# Altium integrated library Capacitors$.IntLib: 601 symbols (part 2 of 4)
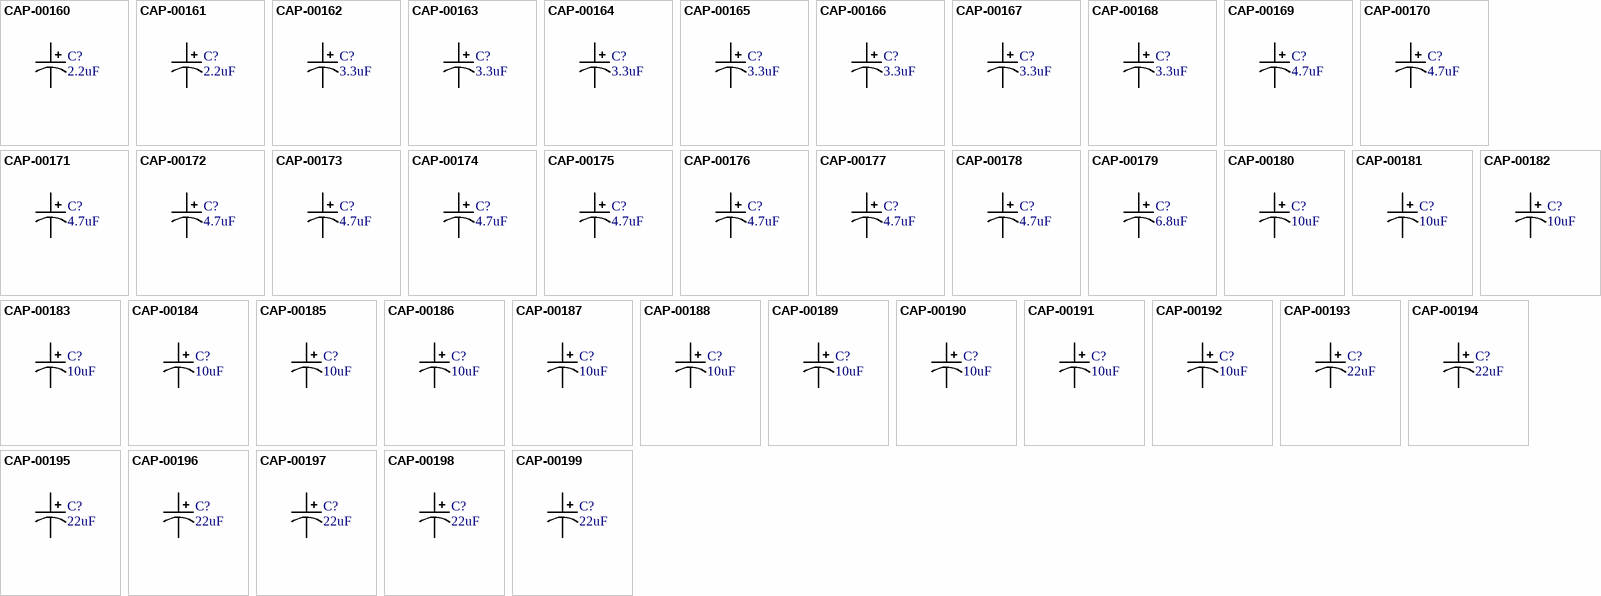
[diagram p16: symbols CAP-00160 to CAP-00199]

## CAP-00191
designator C?, comment 10uF
CAP, 10uF, 20%, 350V, Al, Radial/Can; Part Number: CAP-00191; Manufacturer: Nichicon; Manufacturer PN: UVR2V100MPD; Capacitance: 10uF; Tolerance: 20%; Voltage Rating: 350V; Type: Al
footprint can_5_0
pins: 1, 2

## CAP-00192
designator C?, comment 10uF
CAP, 10uF, 20%, 315V, Al, Radial/Can; Part Number: CAP-00192; Manufacturer: Nichicon; Manufacturer PN: UVR2F100MPD; Capacitance: 10uF; Tolerance: 20%; Voltage Rating: 315V; Type: Al
footprint can_5_0
pins: 1, 2

## CAP-00193
designator C?, comment 22uF
CAP, 22uF, 20%, 50V, Al, Radial/Can; Part Number: CAP-00193; Manufacturer: Nichicon; Manufacturer PN: UVR1H220MDD; Capacitance: 22uF; Tolerance: 20%; Voltage Rating: 50V; Type: Al
footprint can_2_0
pins: 1, 2

## CAP-00194
designator C?, comment 22uF
CAP, 22uF, 20%, 25V, Al, Radial/Can; Part Number: CAP-00194; Manufacturer: Nichicon; Manufacturer PN: UVR1E220MDD; Capacitance: 22uF; Tolerance: 20%; Voltage Rating: 25V; Type: Al
footprint can_2_0
pins: 1, 2

## CAP-00195
designator C?, comment 22uF
CAP, 22uF, 20%, 100V, Al, Radial/Can; Part Number: CAP-00195; Manufacturer: Nichicon; Manufacturer PN: UVR2A220MED; Capacitance: 22uF; Tolerance: 20%; Voltage Rating: 100V; Type: Al
footprint can_2.5_0
pins: 1, 2

## CAP-00196
designator C?, comment 22uF
CAP, 22uF, 20%, 160V, Al, Radial/Can; Part Number: CAP-00196; Manufacturer: Nichicon; Manufacturer PN: UVR2C220MPD; Capacitance: 22uF; Tolerance: 20%; Voltage Rating: 160V; Type: Al
footprint can_5_0
pins: 1, 2

## CAP-00197
designator C?, comment 22uF
CAP, 22uF, 20%, 450V, Al, Radial/Can; Part Number: CAP-00197; Manufacturer: Nichicon; Manufacturer PN: UVR2W220MHD; Capacitance: 22uF; Tolerance: 20%; Voltage Rating: 450V; Type: Al
footprint can_7.5_0
pins: 1, 2

## CAP-00198
designator C?, comment 22uF
CAP, 22uF, 20%, 35V, Al, Radial/Can; Part Number: CAP-00198; Manufacturer: Nichicon; Manufacturer PN: UVR1V220MDD; Capacitance: 22uF; Tolerance: 20%; Voltage Rating: 35V; Type: Al
footprint can_2_0
pins: 1, 2

## CAP-00199
designator C?, comment 22uF
CAP, 22uF, 20%, 63V, Al, Radial/Can; Part Number: CAP-00199; Manufacturer: Nichicon; Manufacturer PN: UVR1J220MDD; Capacitance: 22uF; Tolerance: 20%; Voltage Rating: 63V; Type: Al
footprint can_2_0
pins: 1, 2

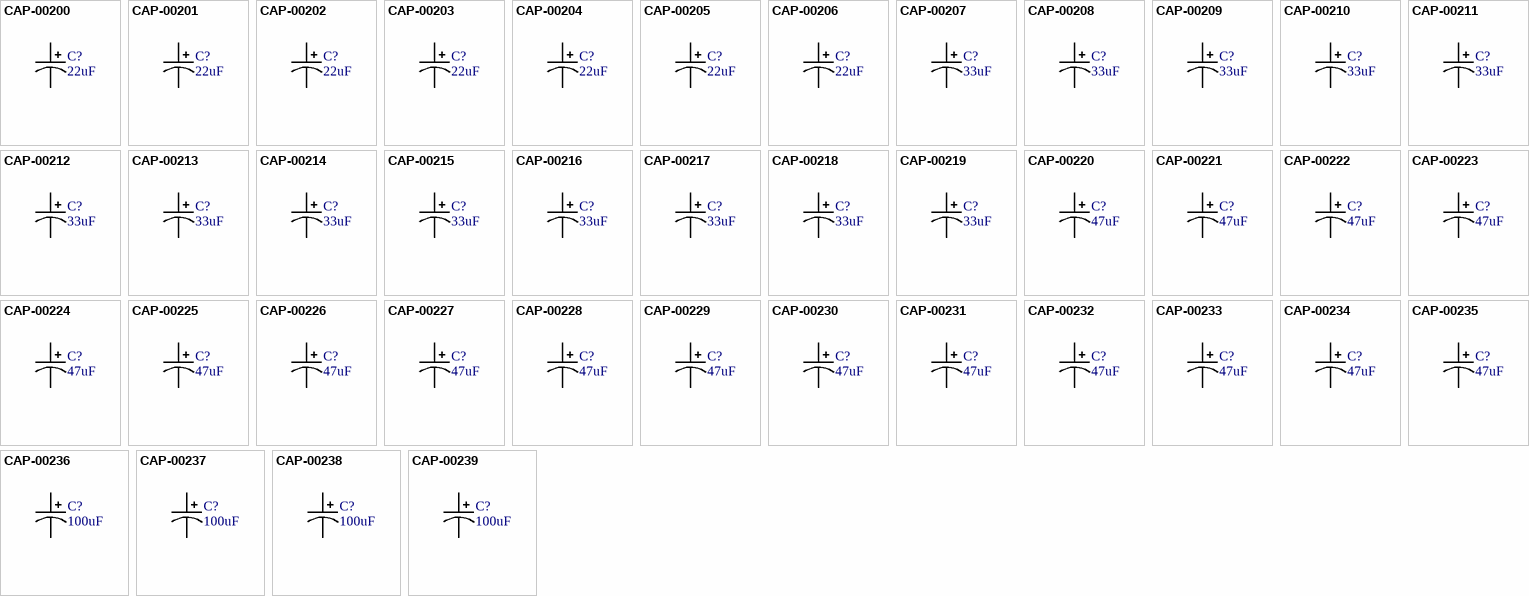
[diagram p5: symbols CAP-00200 to CAP-00239]

## CAP-00200
designator C?, comment 22uF
CAP, 22uF, 20%, 10V, Al, Radial/Can; Part Number: CAP-00200; Manufacturer: Nichicon; Manufacturer PN: UVR1A220MDD; Capacitance: 22uF; Tolerance: 20%; Voltage Rating: 10V; Type: Al
footprint can_2_0
pins: 1, 2

## CAP-00201
designator C?, comment 22uF
CAP, 22uF, 20%, 6.3V, Al, Radial/Can; Part Number: CAP-00201; Manufacturer: Nichicon; Manufacturer PN: UVR0J220MDD; Capacitance: 22uF; Tolerance: 20%; Voltage Rating: 6.3V; Type: Al
footprint can_2_0
pins: 1, 2

## CAP-00202
designator C?, comment 22uF
CAP, 22uF, 20%, 16V, Al, Radial/Can; Part Number: CAP-00202; Manufacturer: Nichicon; Manufacturer PN: UVR1C220MDD; Capacitance: 22uF; Tolerance: 20%; Voltage Rating: 16V; Type: Al
footprint can_2_0
pins: 1, 2

## CAP-00203
designator C?, comment 22uF
CAP, 22uF, 20%, 200V, Al, Radial/Can; Part Number: CAP-00203; Manufacturer: Nichicon; Manufacturer PN: UVR2D220MPD; Capacitance: 22uF; Tolerance: 20%; Voltage Rating: 200V; Type: Al
footprint can_5_0
pins: 1, 2

## CAP-00204
designator C?, comment 22uF
CAP, 22uF, 20%, 250V, Al, Radial/Can; Part Number: CAP-00204; Manufacturer: Nichicon; Manufacturer PN: UVR2E220MHD; Capacitance: 22uF; Tolerance: 20%; Voltage Rating: 250V; Type: Al
footprint can_5_1
pins: 1, 2

## CAP-00205
designator C?, comment 22uF
CAP, 22uF, 20%, 350V, Al, Radial/Can; Part Number: CAP-00205; Manufacturer: Nichicon; Manufacturer PN: UVR2V220MHD; Capacitance: 22uF; Tolerance: 20%; Voltage Rating: 350V; Type: Al
footprint can_5_1
pins: 1, 2

## CAP-00206
designator C?, comment 22uF
CAP, 22uF, 20%, 400V, Al, Radial/Can; Part Number: CAP-00206; Manufacturer: Nichicon; Manufacturer PN: UVR2G220MHD; Capacitance: 22uF; Tolerance: 20%; Voltage Rating: 400V; Type: Al
footprint can_7.5_0
pins: 1, 2

## CAP-00207
designator C?, comment 33uF
CAP, 33uF, 20%, 25V, Al, Radial/Can; Part Number: CAP-00207; Manufacturer: Nichicon; Manufacturer PN: UVR1E330MDD; Capacitance: 33uF; Tolerance: 20%; Voltage Rating: 25V; Type: Al
footprint can_2_0
pins: 1, 2

## CAP-00208
designator C?, comment 33uF
CAP, 33uF, 20%, 50V, Al, Radial/Can; Part Number: CAP-00208; Manufacturer: Nichicon; Manufacturer PN: UVR1H330MDD; Capacitance: 33uF; Tolerance: 20%; Voltage Rating: 50V; Type: Al
footprint can_2_0
pins: 1, 2

## CAP-00209
designator C?, comment 33uF
CAP, 33uF, 20%, 100V, Al, Radial/Can; Part Number: CAP-00209; Manufacturer: Nichicon; Manufacturer PN: UVR2A330MPD; Capacitance: 33uF; Tolerance: 20%; Voltage Rating: 100V; Type: Al
footprint can_3.5_0
pins: 1, 2

## CAP-00210
designator C?, comment 33uF
CAP, 33uF, 20%, 16V, Al, Radial/Can; Part Number: CAP-00210; Manufacturer: Nichicon; Manufacturer PN: UVR1C330MDD; Capacitance: 33uF; Tolerance: 20%; Voltage Rating: 16V; Type: Al
footprint can_2_0
pins: 1, 2

## CAP-00211
designator C?, comment 33uF
CAP, 33uF, 20%, 63V, Al, Radial/Can; Part Number: CAP-00211; Manufacturer: Nichicon; Manufacturer PN: UVR1J330MED; Capacitance: 33uF; Tolerance: 20%; Voltage Rating: 63V; Type: Al
footprint can_2.5_0
pins: 1, 2

## CAP-00212
designator C?, comment 33uF
CAP, 33uF, 20%, 6.3V, Al, Radial/Can; Part Number: CAP-00212; Manufacturer: Nichicon; Manufacturer PN: UVR0J330MDD; Capacitance: 33uF; Tolerance: 20%; Voltage Rating: 6.3V; Type: Al
footprint can_2_0
pins: 1, 2

## CAP-00213
designator C?, comment 33uF
CAP, 33uF, 20%, 10V, Al, Radial/Can; Part Number: CAP-00213; Manufacturer: Nichicon; Manufacturer PN: UVR1A330MDD; Capacitance: 33uF; Tolerance: 20%; Voltage Rating: 10V; Type: Al
footprint can_2_0
pins: 1, 2

## CAP-00214
designator C?, comment 33uF
CAP, 33uF, 20%, 35V, Al, Radial/Can; Part Number: CAP-00214; Manufacturer: Nichicon; Manufacturer PN: UVR1V330MDD; Capacitance: 33uF; Tolerance: 20%; Voltage Rating: 35V; Type: Al
footprint can_2_0
pins: 1, 2

## CAP-00215
designator C?, comment 33uF
CAP, 33uF, 20%, 160V, Al, Radial/Can; Part Number: CAP-00215; Manufacturer: Nichicon; Manufacturer PN: UVR2C330MPD; Capacitance: 33uF; Tolerance: 20%; Voltage Rating: 160V; Type: Al
footprint can_5_0
pins: 1, 2

## CAP-00216
designator C?, comment 33uF
CAP, 33uF, 20%, 200V, Al, Radial/Can; Part Number: CAP-00216; Manufacturer: Nichicon; Manufacturer PN: UVR2D330MHD; Capacitance: 33uF; Tolerance: 20%; Voltage Rating: 200V; Type: Al
footprint can_5_1
pins: 1, 2

## CAP-00217
designator C?, comment 33uF
CAP, 33uF, 20%, 250V, Al, Radial/Can; Part Number: CAP-00217; Manufacturer: Nichicon; Manufacturer PN: UVR2E330MHD; Capacitance: 33uF; Tolerance: 20%; Voltage Rating: 250V; Type: Al
footprint can_5_1
pins: 1, 2

## CAP-00218
designator C?, comment 33uF
CAP, 33uF, 20%, 350V, Al, Radial/Can; Part Number: CAP-00218; Manufacturer: Nichicon; Manufacturer PN: UVR2V330MHD; Capacitance: 33uF; Tolerance: 20%; Voltage Rating: 350V; Type: Al
footprint can_7.5_0
pins: 1, 2

## CAP-00219
designator C?, comment 33uF
CAP, 33uF, 20%, 450V, Al, Radial/Can; Part Number: CAP-00219; Manufacturer: Nichicon; Manufacturer PN: UVR2W330MHD; Capacitance: 33uF; Tolerance: 20%; Voltage Rating: 450V; Type: Al
footprint can_7.5_0
pins: 1, 2

## CAP-00220
designator C?, comment 47uF
CAP, 47uF, 20%, 50V, Al, Radial/Can; Part Number: CAP-00220; Manufacturer: Nichicon; Manufacturer PN: UVR1H470MED; Capacitance: 47uF; Tolerance: 20%; Voltage Rating: 50V; Type: Al
footprint can_2.5_0
pins: 1, 2

## CAP-00221
designator C?, comment 47uF
CAP, 47uF, 20%, 25V, Al, Radial/Can; Part Number: CAP-00221; Manufacturer: Nichicon; Manufacturer PN: UVR1E470MDD; Capacitance: 47uF; Tolerance: 20%; Voltage Rating: 25V; Type: Al
footprint can_2_0
pins: 1, 2

## CAP-00222
designator C?, comment 47uF
CAP, 47uF, 20%, 16V, Al, Radial/Can; Part Number: CAP-00222; Manufacturer: Nichicon; Manufacturer PN: UVR1C470MDD; Capacitance: 47uF; Tolerance: 20%; Voltage Rating: 16V; Type: Al
footprint can_2_0
pins: 1, 2

## CAP-00223
designator C?, comment 47uF
CAP, 47uF, 20%, 35V, Al, Radial/Can; Part Number: CAP-00223; Manufacturer: Nichicon; Manufacturer PN: UVR1V470MDD; Capacitance: 47uF; Tolerance: 20%; Voltage Rating: 35V; Type: Al
footprint can_2_0
pins: 1, 2

## CAP-00224
designator C?, comment 47uF
CAP, 47uF, 20%, 63V, Al, Radial/Can; Part Number: CAP-00224; Manufacturer: Nichicon; Manufacturer PN: UVR1J470MED; Capacitance: 47uF; Tolerance: 20%; Voltage Rating: 63V; Type: Al
footprint CP_RADIAL_D6.3_P2.5_H12.5
pins: 1, 2

## CAP-00225
designator C?, comment 47uF
CAP, 47uF, 20%, 100V, Al, Radial/Can; Part Number: CAP-00225; Manufacturer: Nichicon; Manufacturer PN: UVR2A470MPD; Capacitance: 47uF; Tolerance: 20%; Voltage Rating: 100V; Type: Al
footprint CP_RADIAL_D10.0_P5.0_H14.0
pins: 1, 2

## CAP-00226
designator C?, comment 47uF
CAP, 47uF, 20%, 160V, Al, Radial/Can; Part Number: CAP-00226; Manufacturer: Nichicon; Manufacturer PN: UVR2C470MHD; Capacitance: 47uF; Tolerance: 20%; Voltage Rating: 160V; Type: Al
footprint CP_RADIAL_D12.5_P5.0_H22.0
pins: 1, 2

## CAP-00227
designator C?, comment 47uF
CAP, 47uF, 20%, 250V, Al, Radial/Can; Part Number: CAP-00227; Manufacturer: Nichicon; Manufacturer PN: UVR2E470MHD; Capacitance: 47uF; Tolerance: 20%; Voltage Rating: 250V; Type: Al
footprint CP_RADIAL_D12.5_P5.0_H27.0
pins: 1, 2

## CAP-00228
designator C?, comment 47uF
CAP, 47uF, 20%, 10V, Al, Radial/Can; Part Number: CAP-00228; Manufacturer: Nichicon; Manufacturer PN: UVR1A470MDD; Capacitance: 47uF; Tolerance: 20%; Voltage Rating: 10V; Type: Al
footprint can_2_0
pins: 1, 2

## CAP-00229
designator C?, comment 47uF
CAP, 47uF, 20%, 400V, Al, Radial/Can; Part Number: CAP-00229; Manufacturer: Nichicon; Manufacturer PN: UVR2G470MHD; Capacitance: 47uF; Tolerance: 20%; Voltage Rating: 400V; Type: Al
footprint can_7.5_0
pins: 1, 2

## CAP-00230
designator C?, comment 47uF
CAP, 47uF, 20%, 6.3V, Al, Radial/Can; Part Number: CAP-00230; Manufacturer: Nichicon; Manufacturer PN: UVR0J470MDD; Capacitance: 47uF; Tolerance: 20%; Voltage Rating: 6.3V; Type: Al
footprint can_2_0
pins: 1, 2

## CAP-00231
designator C?, comment 47uF
CAP, 47uF, 20%, 200V, Al, Radial/Can; Part Number: CAP-00231; Manufacturer: Nichicon; Manufacturer PN: UVR2D470MHD; Capacitance: 47uF; Tolerance: 20%; Voltage Rating: 200V; Type: Al
footprint can_5_1
pins: 1, 2

## CAP-00232
designator C?, comment 47uF
CAP, 47uF, 20%, 450V, Al, Radial/Can; Part Number: CAP-00232; Manufacturer: Nichicon; Manufacturer PN: UVR2W470MHD; Capacitance: 47uF; Tolerance: 20%; Voltage Rating: 450V; Type: Al
footprint can_7.5_1
pins: 1, 2

## CAP-00233
designator C?, comment 47uF
CAP, 47uF, 20%, 315V, Al, Radial/Can; Part Number: CAP-00233; Manufacturer: Nichicon; Manufacturer PN: UVR2F470MHD; Capacitance: 47uF; Tolerance: 20%; Voltage Rating: 315V; Type: Al
footprint can_7.5_0
pins: 1, 2

## CAP-00234
designator C?, comment 47uF
CAP, 47uF, 20%, 450V, Al, Radial/Can; Part Number: CAP-00234; Manufacturer: Nichicon; Manufacturer PN: UVR2W470MRD6; Capacitance: 47uF; Tolerance: 20%; Voltage Rating: 450V; Type: Al
footprint can_10_1
pins: 1, 2

## CAP-00235
designator C?, comment 47uF
CAP, 47uF, 20%, 350V, Al, Radial/Can; Part Number: CAP-00235; Manufacturer: Nichicon; Manufacturer PN: UVR2V470MHD; Capacitance: 47uF; Tolerance: 20%; Voltage Rating: 350V; Type: Al
footprint can_7.5_0
pins: 1, 2

## CAP-00236
designator C?, comment 100uF
CAP, 100uF, 20%, 450V, Al, Radial/Can; Part Number: CAP-00236; Manufacturer: Nichicon; Manufacturer PN: UVR2W101MRD; Capacitance: 100uF; Tolerance: 20%; Voltage Rating: 450V; Type: Al
footprint can_10_1
pins: 1, 2

## CAP-00237
designator C?, comment 100uF
CAP, 100uF, 20%, 25V, Al, Radial/Can; Part Number: CAP-00237; Manufacturer: Nichicon; Manufacturer PN: UVR1E101MED; Capacitance: 100uF; Tolerance: 20%; Voltage Rating: 25V; Type: Al
footprint can_2.5_0
pins: 1, 2

## CAP-00238
designator C?, comment 100uF
CAP, 100uF, 20%, 10V, Al, Radial/Can; Part Number: CAP-00238; Manufacturer: Nichicon; Manufacturer PN: UVR1A101MDD; Capacitance: 100uF; Tolerance: 20%; Voltage Rating: 10V; Type: Al
footprint can_2_0
pins: 1, 2

## CAP-00239
designator C?, comment 100uF
CAP, 100uF, 20%, 35V, Al, Radial/Can; Part Number: CAP-00239; Manufacturer: Nichicon; Manufacturer PN: UVR1V101MED; Capacitance: 100uF; Tolerance: 20%; Voltage Rating: 35V; Type: Al
footprint CP_RADIAL_D6.3_P2.5_H12.5
pins: 1, 2

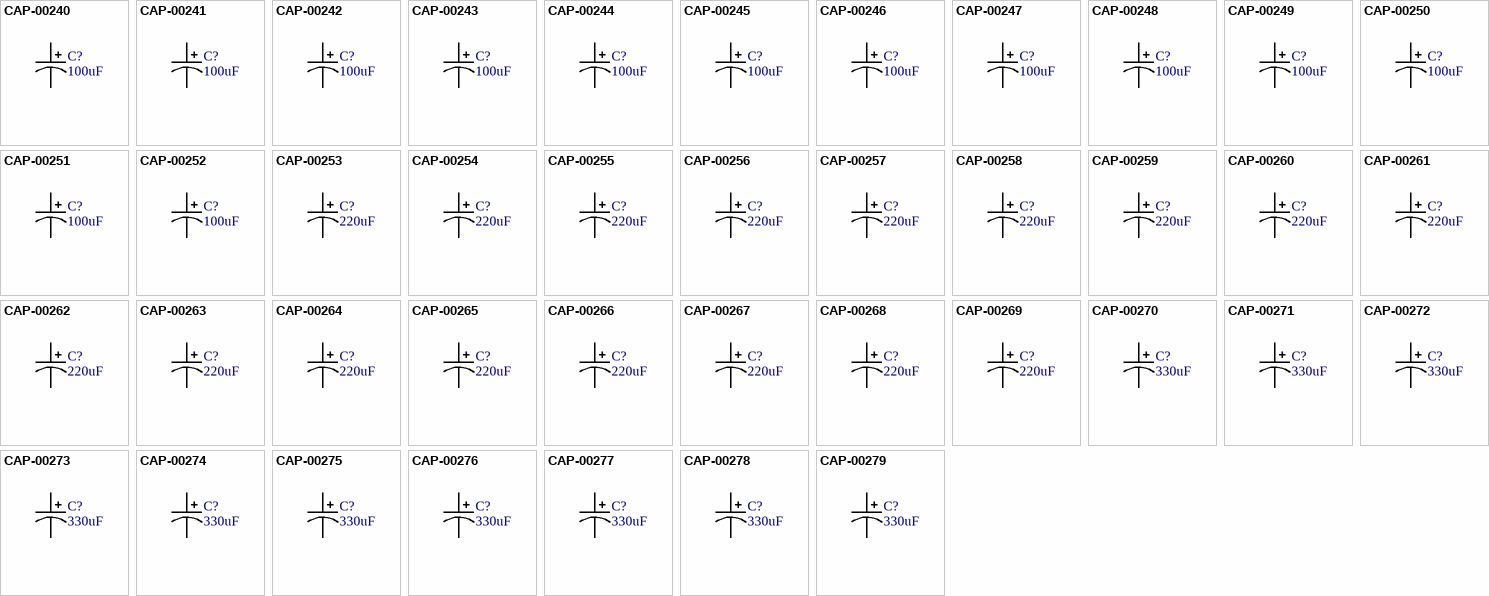
[diagram p6: symbols CAP-00240 to CAP-00279]

## CAP-00240
designator C?, comment 100uF
CAP, 100uF, 20%, 16V, Al, Radial/Can; Part Number: CAP-00240; Manufacturer: Nichicon; Manufacturer PN: UVR1C101MDD; Capacitance: 100uF; Tolerance: 20%; Voltage Rating: 16V; Type: Al
footprint can_2_0
pins: 1, 2

## CAP-00241
designator C?, comment 100uF
CAP, 100uF, 20%, 50V, Al, Radial/Can; Part Number: CAP-00241; Manufacturer: Nichicon; Manufacturer PN: UVR1H101MPD; Capacitance: 100uF; Tolerance: 20%; Voltage Rating: 50V; Type: Al
footprint can_3.5_0
pins: 1, 2

## CAP-00242
designator C?, comment 100uF
CAP, 100uF, 20%, 63V, Al, Radial/Can; Part Number: CAP-00242; Manufacturer: Nichicon; Manufacturer PN: UVR1J101MPD; Capacitance: 100uF; Tolerance: 20%; Voltage Rating: 63V; Type: Al
footprint can_5_0
pins: 1, 2

## CAP-00243
designator C?, comment 100uF
CAP, 100uF, 20%, 100V, Al, Radial/Can; Part Number: CAP-00243; Manufacturer: Nichicon; Manufacturer PN: UVR2A101MPD; Capacitance: 100uF; Tolerance: 20%; Voltage Rating: 100V; Type: Al; Cost: https://www.digikey.com/en/products/detail/nichicon/UVR2A101MPD/588889
footprint can_5_0
pins: 1, 2

## CAP-00244
designator C?, comment 100uF
CAP, 100uF, 20%, 6.3V, Al, Radial/Can; Part Number: CAP-00244; Manufacturer: Nichicon; Manufacturer PN: UVR0J101MDD; Capacitance: 100uF; Tolerance: 20%; Voltage Rating: 6.3V; Type: Al
footprint can_2_0
pins: 1, 2

## CAP-00245
designator C?, comment 100uF
CAP, 100uF, 20%, 250V, Al, Radial/Can; Part Number: CAP-00245; Manufacturer: Nichicon; Manufacturer PN: UVR2E101MHD; Capacitance: 100uF; Tolerance: 20%; Voltage Rating: 250V; Type: Al
footprint can_7.5_0
pins: 1, 2

## CAP-00246
designator C?, comment 100uF
CAP, 100uF, 20%, 315V, Al, Radial/Can; Part Number: CAP-00246; Manufacturer: Nichicon; Manufacturer PN: UVR2F101MHD; Capacitance: 100uF; Tolerance: 20%; Voltage Rating: 315V; Type: Al
footprint can_7.5_1
pins: 1, 2

## CAP-00247
designator C?, comment 100uF
CAP, 100uF, 20%, 400V, Al, Radial/Can; Part Number: CAP-00247; Manufacturer: Nichicon; Manufacturer PN: UVR2G101MRD6; Capacitance: 100uF; Tolerance: 20%; Voltage Rating: 400V; Type: Al
footprint can_12.5_0
pins: 1, 2

## CAP-00248
designator C?, comment 100uF
CAP, 100uF, 20%, 160V, Al, Radial/Can; Part Number: CAP-00248; Manufacturer: Nichicon; Manufacturer PN: UVR2C101MHD; Capacitance: 100uF; Tolerance: 20%; Voltage Rating: 160V; Type: Al
footprint can_5_1
pins: 1, 2

## CAP-00249
designator C?, comment 100uF
CAP, 100uF, 20%, 200V, Al, Radial/Can; Part Number: CAP-00249; Manufacturer: Nichicon; Manufacturer PN: UVR2D101MHD; Capacitance: 100uF; Tolerance: 20%; Voltage Rating: 200V; Type: Al
footprint can_7.5_0
pins: 1, 2

## CAP-00250
designator C?, comment 100uF
CAP, 100uF, 20%, 350V, Al, Radial/Can; Part Number: CAP-00250; Manufacturer: Nichicon; Manufacturer PN: UVR2V101MHD; Capacitance: 100uF; Tolerance: 20%; Voltage Rating: 350V; Type: Al
footprint can_7.5_1
pins: 1, 2

## CAP-00251
designator C?, comment 100uF
CAP, 100uF, 20%, 400V, Al, Radial/Can; Part Number: CAP-00251; Manufacturer: Nichicon; Manufacturer PN: UVR2G101MRD; Capacitance: 100uF; Tolerance: 20%; Voltage Rating: 400V; Type: Al
footprint can_10_0
pins: 1, 2

## CAP-00252
designator C?, comment 100uF
CAP, 100uF, 20%, 350V, Al, Radial/Can; Part Number: CAP-00252; Manufacturer: Nichicon; Manufacturer PN: UVR2V101MRD6; Capacitance: 100uF; Tolerance: 20%; Voltage Rating: 350V; Type: Al
footprint can_10_1
pins: 1, 2

## CAP-00253
designator C?, comment 220uF
CAP, 220uF, 20%, 10V, Al, Radial/Can; Part Number: CAP-00253; Manufacturer: Nichicon; Manufacturer PN: UVR1A221MED; Capacitance: 220uF; Tolerance: 20%; Voltage Rating: 10V; Type: Al
footprint can_2.5_0
pins: 1, 2

## CAP-00254
designator C?, comment 220uF
CAP, 220uF, 20%, 16V, Al, Radial/Can; Part Number: CAP-00254; Manufacturer: Nichicon; Manufacturer PN: UVR1C221MED; Capacitance: 220uF; Tolerance: 20%; Voltage Rating: 16V; Type: Al
footprint can_2.5_0
pins: 1, 2

## CAP-00255
designator C?, comment 220uF
CAP, 220uF, 20%, 6.3V, Al, Radial/Can; Part Number: CAP-00255; Manufacturer: Nichicon; Manufacturer PN: UVR0J221MDD; Capacitance: 220uF; Tolerance: 20%; Voltage Rating: 6.3V; Type: Al
footprint can_2_0
pins: 1, 2

## CAP-00256
designator C?, comment 220uF
CAP, 220uF, 20%, 25V, Al, Radial/Can; Part Number: CAP-00256; Manufacturer: Nichicon; Manufacturer PN: UVR1E221MPD; Capacitance: 220uF; Tolerance: 20%; Voltage Rating: 25V; Type: Al
footprint can_3.5_0
pins: 1, 2

## CAP-00257
designator C?, comment 220uF
CAP, 220uF, 20%, 35V, Al, Radial/Can; Part Number: CAP-00257; Manufacturer: Nichicon; Manufacturer PN: UVR1V221MPD; Capacitance: 220uF; Tolerance: 20%; Voltage Rating: 35V; Type: Al
footprint can_5_0
pins: 1, 2

## CAP-00258
designator C?, comment 220uF
CAP, 220uF, 20%, 63V, Al, Radial/Can; Part Number: CAP-00258; Manufacturer: Nichicon; Manufacturer PN: UVR1J221MPD; Capacitance: 220uF; Tolerance: 20%; Voltage Rating: 63V; Type: Al
footprint can_5_0
pins: 1, 2

## CAP-00259
designator C?, comment 220uF
CAP, 220uF, 20%, 50V, Al, Radial/Can; Part Number: CAP-00259; Manufacturer: Nichicon; Manufacturer PN: UVR1H221MPD; Capacitance: 220uF; Tolerance: 20%; Voltage Rating: 50V; Type: Al
footprint can_5_0
pins: 1, 2

## CAP-00260
designator C?, comment 220uF
CAP, 220uF, 20%, 100V, Al, Radial/Can; Part Number: CAP-00260; Manufacturer: Nichicon; Manufacturer PN: UVR2A221MHD; Capacitance: 220uF; Tolerance: 20%; Voltage Rating: 100V; Type: Al
footprint can_5_1
pins: 1, 2

## CAP-00261
designator C?, comment 220uF
CAP, 220uF, 20%, 400V, Al, Radial/Can; Part Number: CAP-00261; Manufacturer: Nichicon; Manufacturer PN: UVR2G221MRD; Capacitance: 220uF; Tolerance: 20%; Voltage Rating: 400V; Type: Al
footprint can_12.5_0
pins: 1, 2

## CAP-00262
designator C?, comment 220uF
CAP, 220uF, 20%, 315V, Al, Radial/Can; Part Number: CAP-00262; Manufacturer: Nichicon; Manufacturer PN: UVR2F221MRD; Capacitance: 220uF; Tolerance: 20%; Voltage Rating: 315V; Type: Al
footprint can_10_1
pins: 1, 2

## CAP-00263
designator C?, comment 220uF
CAP, 220uF, 20%, 350V, Al, Radial/Can; Part Number: CAP-00263; Manufacturer: Nichicon; Manufacturer PN: UVR2V221MRD6; Capacitance: 220uF; Tolerance: 20%; Voltage Rating: 350V; Type: Al
footprint can_12.5_0
pins: 1, 2

## CAP-00264
designator C?, comment 220uF
CAP, 220uF, 20%, 350V, Al, Radial/Can; Part Number: CAP-00264; Manufacturer: Nichicon; Manufacturer PN: UVR2V221MRD; Capacitance: 220uF; Tolerance: 20%; Voltage Rating: 350V; Type: Al
footprint can_10_1
pins: 1, 2

## CAP-00265
designator C?, comment 220uF
CAP, 220uF, 20%, 250V, Al, Radial/Can; Part Number: CAP-00265; Manufacturer: Nichicon; Manufacturer PN: UVR2E221MRD6; Capacitance: 220uF; Tolerance: 20%; Voltage Rating: 250V; Type: Al
footprint can_10_1
pins: 1, 2

## CAP-00266
designator C?, comment 220uF
CAP, 220uF, 20%, 160V, Al, Radial/Can; Part Number: CAP-00266; Manufacturer: Nichicon; Manufacturer PN: UVR2C221MHD; Capacitance: 220uF; Tolerance: 20%; Voltage Rating: 160V; Type: Al
footprint can_7.5_0
pins: 1, 2

## CAP-00267
designator C?, comment 220uF
CAP, 220uF, 20%, 200V, Al, Radial/Can; Part Number: CAP-00267; Manufacturer: Nichicon; Manufacturer PN: UVR2D221MHD; Capacitance: 220uF; Tolerance: 20%; Voltage Rating: 200V; Type: Al
footprint can_7.5_1
pins: 1, 2

## CAP-00268
designator C?, comment 220uF
CAP, 220uF, 20%, 315V, Al, Radial/Can; Part Number: CAP-00268; Manufacturer: Nichicon; Manufacturer PN: UVR2F221MRD6; Capacitance: 220uF; Tolerance: 20%; Voltage Rating: 315V; Type: Al
footprint can_12.5_0
pins: 1, 2

## CAP-00269
designator C?, comment 220uF
CAP, 220uF, 20%, 250V, Al, Radial/Can; Part Number: CAP-00269; Manufacturer: Nichicon; Manufacturer PN: UVR2E221MRD; Capacitance: 220uF; Tolerance: 20%; Voltage Rating: 250V; Type: Al
footprint can_10_0
pins: 1, 2

## CAP-00270
designator C?, comment 330uF
CAP, 330uF, 20%, 16V, Al, Radial/Can; Part Number: CAP-00270; Manufacturer: Nichicon; Manufacturer PN: UVR1C331MPD; Capacitance: 330uF; Tolerance: 20%; Voltage Rating: 16V; Type: Al
footprint can_3.5_0
pins: 1, 2

## CAP-00271
designator C?, comment 330uF
CAP, 330uF, 20%, 35V, Al, Radial/Can; Part Number: CAP-00271; Manufacturer: Nichicon; Manufacturer PN: UVR1V331MPD; Capacitance: 330uF; Tolerance: 20%; Voltage Rating: 35V; Type: Al
footprint can_5_0
pins: 1, 2

## CAP-00272
designator C?, comment 330uF
CAP, 330uF, 20%, 63V, Al, Radial/Can; Part Number: CAP-00272; Manufacturer: Nichicon; Manufacturer PN: UVR1J331MPD; Capacitance: 330uF; Tolerance: 20%; Voltage Rating: 63V; Type: Al
footprint can_5_0
pins: 1, 2

## CAP-00273
designator C?, comment 330uF
CAP, 330uF, 20%, 100V, Al, Radial/Can; Part Number: CAP-00273; Manufacturer: Nichicon; Manufacturer PN: UVR2A331MHD; Capacitance: 330uF; Tolerance: 20%; Voltage Rating: 100V; Type: Al
footprint can_5_1
pins: 1, 2

## CAP-00274
designator C?, comment 330uF
CAP, 330uF, 20%, 6.3V, Al, Radial/Can; Part Number: CAP-00274; Manufacturer: Nichicon; Manufacturer PN: UVR0J331MED; Capacitance: 330uF; Tolerance: 20%; Voltage Rating: 6.3V; Type: Al
footprint can_2.5_0
pins: 1, 2

## CAP-00275
designator C?, comment 330uF
CAP, 330uF, 20%, 25V, Al, Radial/Can; Part Number: CAP-00275; Manufacturer: Nichicon; Manufacturer PN: UVR1E331MPD; Capacitance: 330uF; Tolerance: 20%; Voltage Rating: 25V; Type: Al
footprint can_5_0
pins: 1, 2

## CAP-00276
designator C?, comment 330uF
CAP, 330uF, 20%, 200V, Al, Radial/Can; Part Number: CAP-00276; Manufacturer: Nichicon; Manufacturer PN: UVR2D331MRD6; Capacitance: 330uF; Tolerance: 20%; Voltage Rating: 200V; Type: Al
footprint can_12.5_0
pins: 1, 2

## CAP-00277
designator C?, comment 330uF
CAP, 330uF, 20%, 10V, Al, Radial/Can; Part Number: CAP-00277; Manufacturer: Nichicon; Manufacturer PN: UVR1A331MED; Capacitance: 330uF; Tolerance: 20%; Voltage Rating: 10V; Type: Al
footprint can_2.5_0
pins: 1, 2

## CAP-00278
designator C?, comment 330uF
CAP, 330uF, 20%, 160V, Al, Radial/Can; Part Number: CAP-00278; Manufacturer: Nichicon; Manufacturer PN: UVR2C331MHD; Capacitance: 330uF; Tolerance: 20%; Voltage Rating: 160V; Type: Al
footprint can_7.5_1
pins: 1, 2

## CAP-00279
designator C?, comment 330uF
CAP, 330uF, 20%, 160V, Al, Radial/Can; Part Number: CAP-00279; Manufacturer: Nichicon; Manufacturer PN: UVR2C331MRD6; Capacitance: 330uF; Tolerance: 20%; Voltage Rating: 160V; Type: Al
footprint can_10_1
pins: 1, 2

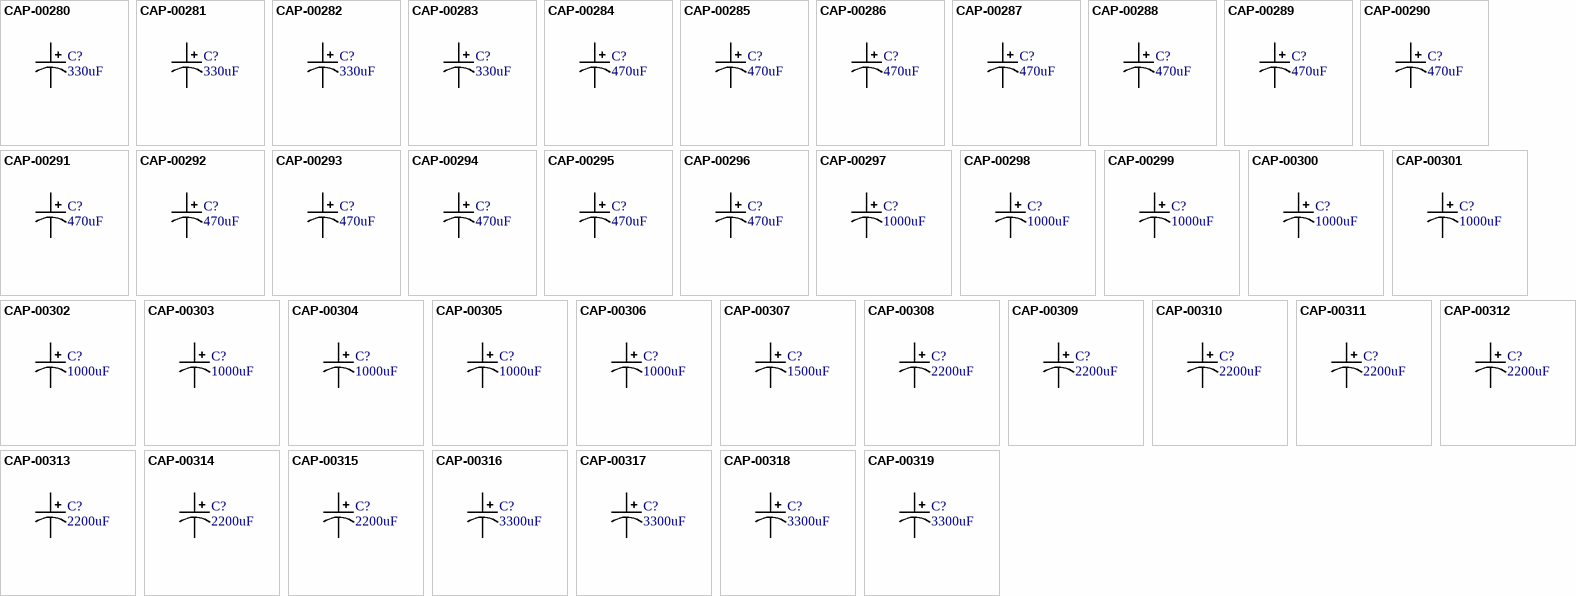
[diagram p7: symbols CAP-00280 to CAP-00319]

## CAP-00280
designator C?, comment 330uF
CAP, 330uF, 20%, 200V, Al, Radial/Can; Part Number: CAP-00280; Manufacturer: Nichicon; Manufacturer PN: UVR2D331MRD; Capacitance: 330uF; Tolerance: 20%; Voltage Rating: 200V; Type: Al
footprint can_10_0
pins: 1, 2

## CAP-00281
designator C?, comment 330uF
CAP, 330uF, 20%, 250V, Al, Radial/Can; Part Number: CAP-00281; Manufacturer: Nichicon; Manufacturer PN: UVR2E331MRD6; Capacitance: 330uF; Tolerance: 20%; Voltage Rating: 250V; Type: Al
footprint can_12.5_0
pins: 1, 2

## CAP-00282
designator C?, comment 330uF
CAP, 330uF, 20%, 250V, Al, Radial/Can; Part Number: CAP-00282; Manufacturer: Nichicon; Manufacturer PN: UVR2E331MRD; Capacitance: 330uF; Tolerance: 20%; Voltage Rating: 250V; Type: Al
footprint can_10_1
pins: 1, 2

## CAP-00283
designator C?, comment 330uF
CAP, 330uF, 20%, 315V, Al, Radial/Can; Part Number: CAP-00283; Manufacturer: Nichicon; Manufacturer PN: UVR2F331MRD; Capacitance: 330uF; Tolerance: 20%; Voltage Rating: 315V; Type: Al
footprint can_12.5_0
pins: 1, 2

## CAP-00284
designator C?, comment 470uF
CAP, 470uF, 20%, 10V, Al, Radial/Can; Part Number: CAP-00284; Manufacturer: Nichicon; Manufacturer PN: UVR1A471MED; Capacitance: 470uF; Tolerance: 20%; Voltage Rating: 10V; Type: Al
footprint can_2.5_0
pins: 1, 2

## CAP-00285
designator C?, comment 470uF
CAP, 470uF, 20%, 16V, Al, Radial/Can; Part Number: CAP-00285; Manufacturer: Nichicon; Manufacturer PN: UVR1C471MPD; Capacitance: 470uF; Tolerance: 20%; Voltage Rating: 16V; Type: Al
footprint can_3.5_0
pins: 1, 2

## CAP-00286
designator C?, comment 470uF
CAP, 470uF, 20%, 25V, Al, Radial/Can; Part Number: CAP-00286; Manufacturer: Nichicon; Manufacturer PN: UVR1E471MPD; Capacitance: 470uF; Tolerance: 20%; Voltage Rating: 25V; Type: Al
footprint can_5_0
pins: 1, 2

## CAP-00287
designator C?, comment 470uF
CAP, 470uF, 20%, 35V, Al, Radial/Can; Part Number: CAP-00287; Manufacturer: Nichicon; Manufacturer PN: UVR1V471MPD; Capacitance: 470uF; Tolerance: 20%; Voltage Rating: 35V; Type: Al; Cost: https://www.digikey.com/en/products/detail/nichicon/UVR1V471MPD/588825
footprint can_5_0
pins: 1, 2

## CAP-00288
designator C?, comment 470uF
CAP, 470uF, 20%, 50V, Al, Radial/Can; Part Number: CAP-00288; Manufacturer: Nichicon; Manufacturer PN: UVR1H471MHD; Capacitance: 470uF; Tolerance: 20%; Voltage Rating: 50V; Type: Al
footprint can_5_1
pins: 1, 2

## CAP-00289
designator C?, comment 470uF
CAP, 470uF, 20%, 63V, Al, Radial/Can; Part Number: CAP-00289; Manufacturer: Nichicon; Manufacturer PN: UVR1J471MHD; Capacitance: 470uF; Tolerance: 20%; Voltage Rating: 63V; Type: Al
footprint can_5_1
pins: 1, 2

## CAP-00290
designator C?, comment 470uF
CAP, 470uF, 20%, 100V, Al, Radial/Can; Part Number: CAP-00290; Manufacturer: Nichicon; Manufacturer PN: UVR2A471MHD; Capacitance: 470uF; Tolerance: 20%; Voltage Rating: 100V; Type: Al
footprint can_7.5_0
pins: 1, 2

## CAP-00291
designator C?, comment 470uF
CAP, 470uF, 20%, 6.3V, Al, Radial/Can; Part Number: CAP-00291; Manufacturer: Nichicon; Manufacturer PN: UVR0J471MED; Capacitance: 470uF; Tolerance: 20%; Voltage Rating: 6.3V; Type: Al
footprint can_2.5_0
pins: 1, 2

## CAP-00292
designator C?, comment 470uF
CAP, 470uF, 20%, 200V, Al, Radial/Can; Part Number: CAP-00292; Manufacturer: Nichicon; Manufacturer PN: UVR2D471MRD; Capacitance: 470uF; Tolerance: 20%; Voltage Rating: 200V; Type: Al
footprint can_10_1
pins: 1, 2

## CAP-00293
designator C?, comment 470uF
CAP, 470uF, 20%, 160V, Al, Radial/Can; Part Number: CAP-00293; Manufacturer: Nichicon; Manufacturer PN: UVR2C471MRD; Capacitance: 470uF; Tolerance: 20%; Voltage Rating: 160V; Type: Al
footprint can_10_1
pins: 1, 2

## CAP-00294
designator C?, comment 470uF
CAP, 470uF, 20%, 250V, Al, Radial/Can; Part Number: CAP-00294; Manufacturer: Nichicon; Manufacturer PN: UVR2E471MRD; Capacitance: 470uF; Tolerance: 20%; Voltage Rating: 250V; Type: Al
footprint can_12.5_0
pins: 1, 2

## CAP-00295
designator C?, comment 470uF
CAP, 470uF, 20%, 200V, Al, Radial/Can; Part Number: CAP-00295; Manufacturer: Nichicon; Manufacturer PN: UVR2D471MRD6; Capacitance: 470uF; Tolerance: 20%; Voltage Rating: 200V; Type: Al
footprint can_12.5_0
pins: 1, 2

## CAP-00296
designator C?, comment 470uF
CAP, 470uF, 20%, 160V, Al, Radial/Can; Part Number: CAP-00296; Manufacturer: Nichicon; Manufacturer PN: UVR2C471MRD6; Capacitance: 470uF; Tolerance: 20%; Voltage Rating: 160V; Type: Al
footprint can_12.5_0
pins: 1, 2

## CAP-00297
designator C?, comment 1000uF
CAP, 1000uF, 20%, 25V, Al, Radial/Can; Part Number: CAP-00297; Manufacturer: Nichicon; Manufacturer PN: UVR1E102MPD; Capacitance: 1000uF; Tolerance: 20%; Voltage Rating: 25V; Type: Al
footprint can_5_0
pins: 1, 2

## CAP-00298
designator C?, comment 1000uF
CAP, 1000uF, 20%, 50V, Al, Radial/Can; Part Number: CAP-00298; Manufacturer: Nichicon; Manufacturer PN: UVR1H102MHD; Capacitance: 1000uF; Tolerance: 20%; Voltage Rating: 50V; Type: Al
footprint can_5_1
pins: 1, 2

## CAP-00299
designator C?, comment 1000uF
CAP, 1000uF, 20%, 63V, Al, Radial/Can; Part Number: CAP-00299; Manufacturer: Nichicon; Manufacturer PN: UVR1J102MHD; Capacitance: 1000uF; Tolerance: 20%; Voltage Rating: 63V; Type: Al
footprint can_7.5_0
pins: 1, 2

## CAP-00300
designator C?, comment 1000uF
CAP, 1000uF, 20%, 100V, Al, Radial/Can; Part Number: CAP-00300; Manufacturer: Nichicon; Manufacturer PN: UVR2A102MHD; Capacitance: 1000uF; Tolerance: 20%; Voltage Rating: 100V; Type: Al
footprint can_7.5_1
pins: 1, 2

## CAP-00301
designator C?, comment 1000uF
CAP, 1000uF, 20%, 6.3V, Al, Radial/Can; Part Number: CAP-00301; Manufacturer: Nichicon; Manufacturer PN: UVR0J102MPD; Capacitance: 1000uF; Tolerance: 20%; Voltage Rating: 6.3V; Type: Al
footprint can_3.5_0
pins: 1, 2

## CAP-00302
designator C?, comment 1000uF
CAP, 1000uF, 20%, 10V, Al, Radial/Can; Part Number: CAP-00302; Manufacturer: Nichicon; Manufacturer PN: UVR1A102MPD; Capacitance: 1000uF; Tolerance: 20%; Voltage Rating: 10V; Type: Al
footprint can_5_0
pins: 1, 2

## CAP-00303
designator C?, comment 1000uF
CAP, 1000uF, 20%, 16V, Al, Radial/Can; Part Number: CAP-00303; Manufacturer: Nichicon; Manufacturer PN: UVR1C102MPD; Capacitance: 1000uF; Tolerance: 20%; Voltage Rating: 16V; Type: Al
footprint can_5_0
pins: 1, 2

## CAP-00304
designator C?, comment 1000uF
CAP, 1000uF, 20%, 35V, Al, Radial/Can; Part Number: CAP-00304; Manufacturer: Nichicon; Manufacturer PN: UVR1V102MHD; Capacitance: 1000uF; Tolerance: 20%; Voltage Rating: 35V; Type: Al
footprint can_5_1
pins: 1, 2

## CAP-00305
designator C?, comment 1000uF
CAP, 1000uF, 20%, 100V, Al, Radial/Can; Part Number: CAP-00305; Manufacturer: Nichicon; Manufacturer PN: UVR2A102MRD6; Capacitance: 1000uF; Tolerance: 20%; Voltage Rating: 100V; Type: Al
footprint can_7.5_1
pins: 1, 2

## CAP-00306
designator C?, comment 1000uF
CAP, 1000uF, 20%, 160V, Al, Radial/Can; Part Number: CAP-00306; Manufacturer: Nichicon; Manufacturer PN: UVR2C102MRD; Capacitance: 1000uF; Tolerance: 20%; Voltage Rating: 160V; Type: Al
footprint can_12.5_0
pins: 1, 2

## CAP-00307
designator C?, comment 1500uF
CAP, 1500uF, 20%, 50V, Al, Radial/Can; Part Number: CAP-00307; Manufacturer: Nichicon; Manufacturer PN: UVR1H152MHD; Capacitance: 1500uF; Tolerance: 20%; Voltage Rating: 50V; Type: Al
footprint can_7.5_1
pins: 1, 2

## CAP-00308
designator C?, comment 2200uF
CAP, 2200uF, 20%, 35V, Al, Radial/Can; Part Number: CAP-00308; Manufacturer: Nichicon; Manufacturer PN: UVR1V222MHD; Capacitance: 2200uF; Tolerance: 20%; Voltage Rating: 35V; Type: Al
footprint can_7.5_0
pins: 1, 2

## CAP-00309
designator C?, comment 2200uF
CAP, 2200uF, 20%, 100V, Al, Radial/Can; Part Number: CAP-00309; Manufacturer: Nichicon; Manufacturer PN: UVR2A222MRD6; Capacitance: 2200uF; Tolerance: 20%; Voltage Rating: 100V; Type: Al
footprint can_12.5_0
pins: 1, 2

## CAP-00310
designator C?, comment 2200uF
CAP, 2200uF, 20%, 10V, Al, Radial/Can; Part Number: CAP-00310; Manufacturer: Nichicon; Manufacturer PN: UVR1A222MPD; Capacitance: 2200uF; Tolerance: 20%; Voltage Rating: 10V; Type: Al
footprint can_5_0
pins: 1, 2

## CAP-00311
designator C?, comment 2200uF
CAP, 2200uF, 20%, 16V, Al, Radial/Can; Part Number: CAP-00311; Manufacturer: Nichicon; Manufacturer PN: UVR1C222MHD; Capacitance: 2200uF; Tolerance: 20%; Voltage Rating: 16V; Type: Al
footprint can_5_1
pins: 1, 2

## CAP-00312
designator C?, comment 2200uF
CAP, 2200uF, 20%, 25V, Al, Radial/Can; Part Number: CAP-00312; Manufacturer: Nichicon; Manufacturer PN: UVR1E222MHD; Capacitance: 2200uF; Tolerance: 20%; Voltage Rating: 25V; Type: Al
footprint can_5_1
pins: 1, 2

## CAP-00313
designator C?, comment 2200uF
CAP, 2200uF, 20%, 63V, Al, Radial/Can; Part Number: CAP-00313; Manufacturer: Nichicon; Manufacturer PN: UVR1J222MHD; Capacitance: 2200uF; Tolerance: 20%; Voltage Rating: 63V; Type: Al
footprint can_7.5_1
pins: 1, 2

## CAP-00314
designator C?, comment 2200uF
CAP, 2200uF, 20%, 100V, Al, Radial/Can; Part Number: CAP-00314; Manufacturer: Nichicon; Manufacturer PN: UVR2A222MRD; Capacitance: 2200uF; Tolerance: 20%; Voltage Rating: 100V; Type: Al
footprint can_10_1
pins: 1, 2

## CAP-00315
designator C?, comment 2200uF
CAP, 2200uF, 20%, 6.3V, Al, Radial/Can; Part Number: CAP-00315; Manufacturer: Nichicon; Manufacturer PN: UVR0J222MPD; Capacitance: 2200uF; Tolerance: 20%; Voltage Rating: 6.3V; Type: Al
footprint can_5_0
pins: 1, 2

## CAP-00316
designator C?, comment 3300uF
CAP, 3300uF, 20%, 50V, Al, Radial/Can; Part Number: CAP-00316; Manufacturer: Nichicon; Manufacturer PN: UVR1H332MHD; Capacitance: 3300uF; Tolerance: 20%; Voltage Rating: 50V; Type: Al
footprint can_7.5_1
pins: 1, 2

## CAP-00317
designator C?, comment 3300uF
CAP, 3300uF, 20%, 100V, Al, Radial/Can; Part Number: CAP-00317; Manufacturer: Nichicon; Manufacturer PN: UVR2A332MRD; Capacitance: 3300uF; Tolerance: 20%; Voltage Rating: 100V; Type: Al
footprint can_12.5_0
pins: 1, 2

## CAP-00318
designator C?, comment 3300uF
CAP, 3300uF, 20%, 6.3V, Al, Radial/Can; Part Number: CAP-00318; Manufacturer: Nichicon; Manufacturer PN: UVR0J332MPD; Capacitance: 3300uF; Tolerance: 20%; Voltage Rating: 6.3V; Type: Al
footprint can_5_0
pins: 1, 2

## CAP-00319
designator C?, comment 3300uF
CAP, 3300uF, 20%, 10V, Al, Radial/Can; Part Number: CAP-00319; Manufacturer: Nichicon; Manufacturer PN: UVR1A332MHD; Capacitance: 3300uF; Tolerance: 20%; Voltage Rating: 10V; Type: Al
footprint can_5_1
pins: 1, 2

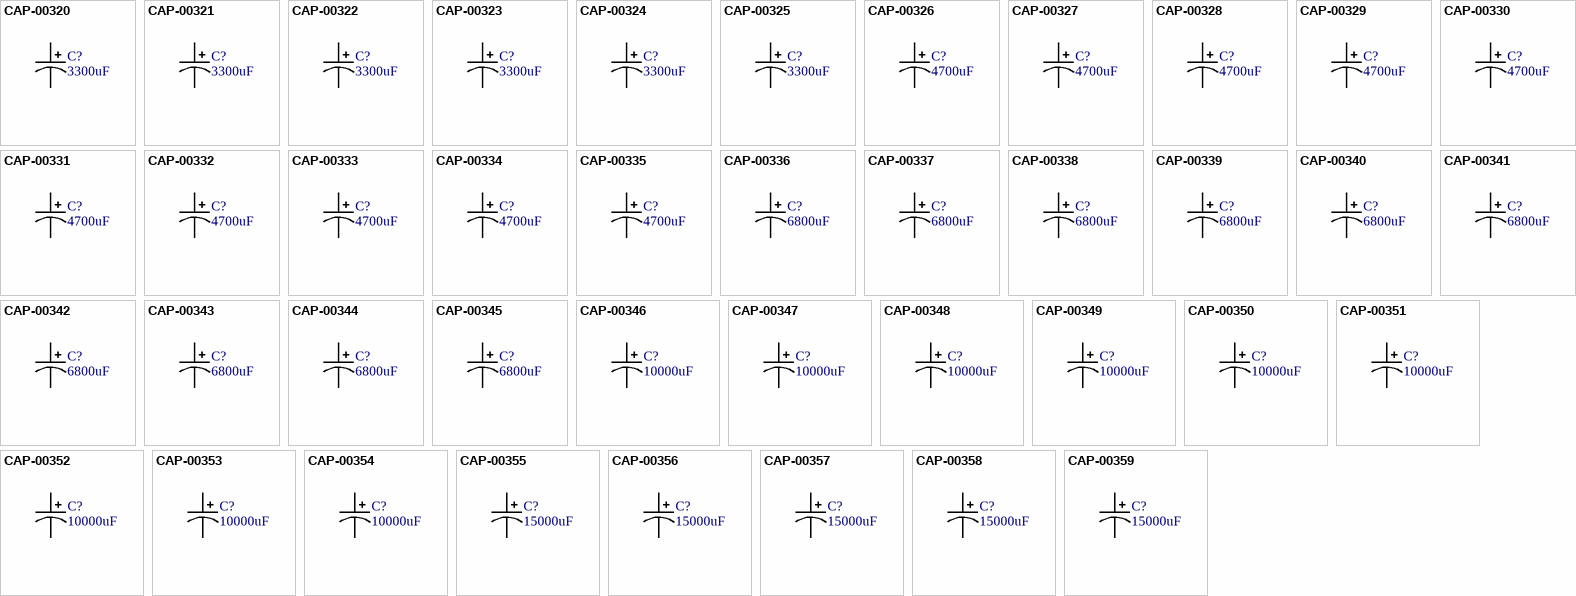
[diagram p8: symbols CAP-00320 to CAP-00359]

## CAP-00320
designator C?, comment 3300uF
CAP, 3300uF, 20%, 25V, Al, Radial/Can; Part Number: CAP-00320; Manufacturer: Nichicon; Manufacturer PN: UVR1E332MHD; Capacitance: 3300uF; Tolerance: 20%; Voltage Rating: 25V; Type: Al
footprint can_7.5_0
pins: 1, 2

## CAP-00321
designator C?, comment 3300uF
CAP, 3300uF, 20%, 63V, Al, Radial/Can; Part Number: CAP-00321; Manufacturer: Nichicon; Manufacturer PN: UVR1J332MRD6; Capacitance: 3300uF; Tolerance: 20%; Voltage Rating: 63V; Type: Al
footprint can_12.5_0
pins: 1, 2

## CAP-00322
designator C?, comment 3300uF
CAP, 3300uF, 20%, 50V, Al, Radial/Can; Part Number: CAP-00322; Manufacturer: Nichicon; Manufacturer PN: UVR1H332MRD6; Capacitance: 3300uF; Tolerance: 20%; Voltage Rating: 50V; Type: Al
footprint can_10_1
pins: 1, 2

## CAP-00323
designator C?, comment 3300uF
CAP, 3300uF, 20%, 35V, Al, Radial/Can; Part Number: CAP-00323; Manufacturer: Nichicon; Manufacturer PN: UVR1V332MHD; Capacitance: 3300uF; Tolerance: 20%; Voltage Rating: 35V; Type: Al
footprint can_7.5_0
pins: 1, 2

## CAP-00324
designator C?, comment 3300uF
CAP, 3300uF, 20%, 63V, Al, Radial/Can; Part Number: CAP-00324; Manufacturer: Nichicon; Manufacturer PN: UVR1J332MRD; Capacitance: 3300uF; Tolerance: 20%; Voltage Rating: 63V; Type: Al
footprint can_10_0
pins: 1, 2

## CAP-00325
designator C?, comment 3300uF
CAP, 3300uF, 20%, 16V, Al, Radial/Can; Part Number: CAP-00325; Manufacturer: Nichicon; Manufacturer PN: UVR1C332MHD; Capacitance: 3300uF; Tolerance: 20%; Voltage Rating: 16V; Type: Al
footprint can_5_1
pins: 1, 2

## CAP-00326
designator C?, comment 4700uF
CAP, 4700uF, 20%, 25V, Al, Radial/Can; Part Number: CAP-00326; Manufacturer: Nichicon; Manufacturer PN: UVR1E472MHD; Capacitance: 4700uF; Tolerance: 20%; Voltage Rating: 25V; Type: Al
footprint can_7.5_0
pins: 1, 2

## CAP-00327
designator C?, comment 4700uF
CAP, 4700uF, 20%, 35V, Al, Radial/Can; Part Number: CAP-00327; Manufacturer: Nichicon; Manufacturer PN: UVR1V472MHD; Capacitance: 4700uF; Tolerance: 20%; Voltage Rating: 35V; Type: Al
footprint can_7.5_1
pins: 1, 2

## CAP-00328
designator C?, comment 4700uF
CAP, 4700uF, 20%, 50V, Al, Radial/Can; Part Number: CAP-00328; Manufacturer: Nichicon; Manufacturer PN: UVR1H472MRD; Capacitance: 4700uF; Tolerance: 20%; Voltage Rating: 50V; Type: Al
footprint can_10_0
pins: 1, 2

## CAP-00329
designator C?, comment 4700uF
CAP, 4700uF, 20%, 6.3V, Al, Radial/Can; Part Number: CAP-00329; Manufacturer: Nichicon; Manufacturer PN: UVR0J472MHD; Capacitance: 4700uF; Tolerance: 20%; Voltage Rating: 6.3V; Type: Al
footprint can_5_1
pins: 1, 2

## CAP-00330
designator C?, comment 4700uF
CAP, 4700uF, 20%, 10V, Al, Radial/Can; Part Number: CAP-00330; Manufacturer: Nichicon; Manufacturer PN: UVR1A472MHD; Capacitance: 4700uF; Tolerance: 20%; Voltage Rating: 10V; Type: Al
footprint can_5_1
pins: 1, 2

## CAP-00331
designator C?, comment 4700uF
CAP, 4700uF, 20%, 16V, Al, Radial/Can; Part Number: CAP-00331; Manufacturer: Nichicon; Manufacturer PN: UVR1C472MHD; Capacitance: 4700uF; Tolerance: 20%; Voltage Rating: 16V; Type: Al
footprint can_7.5_0
pins: 1, 2

## CAP-00332
designator C?, comment 4700uF
CAP, 4700uF, 20%, 35V, Al, Radial/Can; Part Number: CAP-00332; Manufacturer: Nichicon; Manufacturer PN: UVR1V472MRD6; Capacitance: 4700uF; Tolerance: 20%; Voltage Rating: 35V; Type: Al
footprint can_10_0
pins: 1, 2

## CAP-00333
designator C?, comment 4700uF
CAP, 4700uF, 20%, 50V, Al, Radial/Can; Part Number: CAP-00333; Manufacturer: Nichicon; Manufacturer PN: UVR1H472MRD6; Capacitance: 4700uF; Tolerance: 20%; Voltage Rating: 50V; Type: Al
footprint can_12.5_0
pins: 1, 2

## CAP-00334
designator C?, comment 4700uF
CAP, 4700uF, 20%, 63V, Al, Radial/Can; Part Number: CAP-00334; Manufacturer: Nichicon; Manufacturer PN: UVR1J472MRD; Capacitance: 4700uF; Tolerance: 20%; Voltage Rating: 63V; Type: Al
footprint can_10_1
pins: 1, 2

## CAP-00335
designator C?, comment 4700uF
CAP, 4700uF, 20%, 63V, Al, Radial/Can; Part Number: CAP-00335; Manufacturer: Nichicon; Manufacturer PN: UVR1J472MRD6; Capacitance: 4700uF; Tolerance: 20%; Voltage Rating: 63V; Type: Al
footprint can_12.5_0
pins: 1, 2

## CAP-00336
designator C?, comment 6800uF
CAP, 6800uF, 20%, 25V, Al, Radial/Can; Part Number: CAP-00336; Manufacturer: Nichicon; Manufacturer PN: UVR1E682MRD6; Capacitance: 6800uF; Tolerance: 20%; Voltage Rating: 25V; Type: Al
footprint can_10_0
pins: 1, 2

## CAP-00337
designator C?, comment 6800uF
CAP, 6800uF, 20%, 50V, Al, Radial/Can; Part Number: CAP-00337; Manufacturer: Nichicon; Manufacturer PN: UVR1H682MRD; Capacitance: 6800uF; Tolerance: 20%; Voltage Rating: 50V; Type: Al
footprint can_10_1
pins: 1, 2

## CAP-00338
designator C?, comment 6800uF
CAP, 6800uF, 20%, 50V, Al, Radial/Can; Part Number: CAP-00338; Manufacturer: Nichicon; Manufacturer PN: UVR1H682MRD6; Capacitance: 6800uF; Tolerance: 20%; Voltage Rating: 50V; Type: Al
footprint can_12.5_0
pins: 1, 2

## CAP-00339
designator C?, comment 6800uF
CAP, 6800uF, 20%, 63V, Al, Radial/Can; Part Number: CAP-00339; Manufacturer: Nichicon; Manufacturer PN: UVR1J682MRD; Capacitance: 6800uF; Tolerance: 20%; Voltage Rating: 63V; Type: Al
footprint can_12.5_0
pins: 1, 2

## CAP-00340
designator C?, comment 6800uF
CAP, 6800uF, 20%, 10V, Al, Radial/Can; Part Number: CAP-00340; Manufacturer: Nichicon; Manufacturer PN: UVR1A682MHD; Capacitance: 6800uF; Tolerance: 20%; Voltage Rating: 10V; Type: Al
footprint can_7.5_0
pins: 1, 2

## CAP-00341
designator C?, comment 6800uF
CAP, 6800uF, 20%, 35V, Al, Radial/Can; Part Number: CAP-00341; Manufacturer: Nichicon; Manufacturer PN: UVR1V682MRD6; Capacitance: 6800uF; Tolerance: 20%; Voltage Rating: 35V; Type: Al
footprint can_12.5_0
pins: 1, 2

## CAP-00342
designator C?, comment 6800uF
CAP, 6800uF, 20%, 25V, Al, Radial/Can; Part Number: CAP-00342; Manufacturer: Nichicon; Manufacturer PN: UVR1E682MHD; Capacitance: 6800uF; Tolerance: 20%; Voltage Rating: 25V; Type: Al
footprint can_7.5_1
pins: 1, 2

## CAP-00343
designator C?, comment 6800uF
CAP, 6800uF, 20%, 6.3V, Al, Radial/Can; Part Number: CAP-00343; Manufacturer: Nichicon; Manufacturer PN: UVR0J682MHD; Capacitance: 6800uF; Tolerance: 20%; Voltage Rating: 6.3V; Type: Al
footprint can_5_1
pins: 1, 2

## CAP-00344
designator C?, comment 6800uF
CAP, 6800uF, 20%, 16V, Al, Radial/Can; Part Number: CAP-00344; Manufacturer: Nichicon; Manufacturer PN: UVR1C682MHD; Capacitance: 6800uF; Tolerance: 20%; Voltage Rating: 16V; Type: Al
footprint can_7.5_0
pins: 1, 2

## CAP-00345
designator C?, comment 6800uF
CAP, 6800uF, 20%, 35V, Al, Radial/Can; Part Number: CAP-00345; Manufacturer: Nichicon; Manufacturer PN: UVR1V682MRD; Capacitance: 6800uF; Tolerance: 20%; Voltage Rating: 35V; Type: Al
footprint can_10_0
pins: 1, 2

## CAP-00346
designator C?, comment 10000uF
CAP, 10000uF, 20%, 16V, Al, Radial/Can; Part Number: CAP-00346; Manufacturer: Nichicon; Manufacturer PN: UVR1C103MHD; Capacitance: 10000uF; Tolerance: 20%; Voltage Rating: 16V; Type: Al
footprint can_7.5_1
pins: 1, 2

## CAP-00347
designator C?, comment 10000uF
CAP, 10000uF, 20%, 16V, Al, Radial/Can; Part Number: CAP-00347; Manufacturer: Nichicon; Manufacturer PN: UVR1C103MRD6; Capacitance: 10000uF; Tolerance: 20%; Voltage Rating: 16V; Type: Al
footprint can_10_0
pins: 1, 2

## CAP-00348
designator C?, comment 10000uF
CAP, 10000uF, 20%, 35V, Al, Radial/Can; Part Number: CAP-00348; Manufacturer: Nichicon; Manufacturer PN: UVR1V103MRD6; Capacitance: 10000uF; Tolerance: 20%; Voltage Rating: 35V; Type: Al
footprint can_12.5_0
pins: 1, 2

## CAP-00349
designator C?, comment 10000uF
CAP, 10000uF, 20%, 25V, Al, Radial/Can; Part Number: CAP-00349; Manufacturer: Nichicon; Manufacturer PN: UVR1E103MRD; Capacitance: 10000uF; Tolerance: 20%; Voltage Rating: 25V; Type: Al
footprint can_10_0
pins: 1, 2

## CAP-00350
designator C?, comment 10000uF
CAP, 10000uF, 20%, 50V, Al, Radial/Can; Part Number: CAP-00350; Manufacturer: Nichicon; Manufacturer PN: UVR1H103MRD; Capacitance: 10000uF; Tolerance: 20%; Voltage Rating: 50V; Type: Al
footprint can_12.5_0
pins: 1, 2

## CAP-00351
designator C?, comment 10000uF
CAP, 10000uF, 20%, 25V, Al, Radial/Can; Part Number: CAP-00351; Manufacturer: Nichicon; Manufacturer PN: UVR1E103MRD6; Capacitance: 10000uF; Tolerance: 20%; Voltage Rating: 25V; Type: Al
footprint can_12.5_0
pins: 1, 2

## CAP-00352
designator C?, comment 10000uF
CAP, 10000uF, 20%, 35V, Al, Radial/Can; Part Number: CAP-00352; Manufacturer: Nichicon; Manufacturer PN: UVR1V103MRD; Capacitance: 10000uF; Tolerance: 20%; Voltage Rating: 35V; Type: Al
footprint can_10_1
pins: 1, 2

## CAP-00353
designator C?, comment 10000uF
CAP, 10000uF, 20%, 6.3V, Al, Radial/Can; Part Number: CAP-00353; Manufacturer: Nichicon; Manufacturer PN: UVR0J103MHD; Capacitance: 10000uF; Tolerance: 20%; Voltage Rating: 6.3V; Type: Al
footprint can_7.5_0
pins: 1, 2

## CAP-00354
designator C?, comment 10000uF
CAP, 10000uF, 20%, 10V, Al, Radial/Can; Part Number: CAP-00354; Manufacturer: Nichicon; Manufacturer PN: UVR1A103MHD; Capacitance: 10000uF; Tolerance: 20%; Voltage Rating: 10V; Type: Al
footprint can_7.5_0
pins: 1, 2

## CAP-00355
designator C?, comment 15000uF
CAP, 15000uF, 20%, 35V, Al, Radial/Can; Part Number: CAP-00355; Manufacturer: Nichicon; Manufacturer PN: UVR1V153MRD; Capacitance: 15000uF; Tolerance: 20%; Voltage Rating: 35V; Type: Al
footprint can_12.5_0
pins: 1, 2

## CAP-00356
designator C?, comment 15000uF
CAP, 15000uF, 20%, 10V, Al, Radial/Can; Part Number: CAP-00356; Manufacturer: Nichicon; Manufacturer PN: UVR1A153MHD; Capacitance: 15000uF; Tolerance: 20%; Voltage Rating: 10V; Type: Al
footprint can_7.5_1
pins: 1, 2

## CAP-00357
designator C?, comment 15000uF
CAP, 15000uF, 20%, 25V, Al, Radial/Can; Part Number: CAP-00357; Manufacturer: Nichicon; Manufacturer PN: UVR1E153MRD6; Capacitance: 15000uF; Tolerance: 20%; Voltage Rating: 25V; Type: Al
footprint can_12.5_0
pins: 1, 2

## CAP-00358
designator C?, comment 15000uF
CAP, 15000uF, 20%, 16V, Al, Radial/Can; Part Number: CAP-00358; Manufacturer: Nichicon; Manufacturer PN: UVR1C153MRD; Capacitance: 15000uF; Tolerance: 20%; Voltage Rating: 16V; Type: Al
footprint can_10_0
pins: 1, 2

## CAP-00359
designator C?, comment 15000uF
CAP, 15000uF, 20%, 16V, Al, Radial/Can; Part Number: CAP-00359; Manufacturer: Nichicon; Manufacturer PN: UVR1C153MRD6; Capacitance: 15000uF; Tolerance: 20%; Voltage Rating: 16V; Type: Al
footprint can_12.5_0
pins: 1, 2

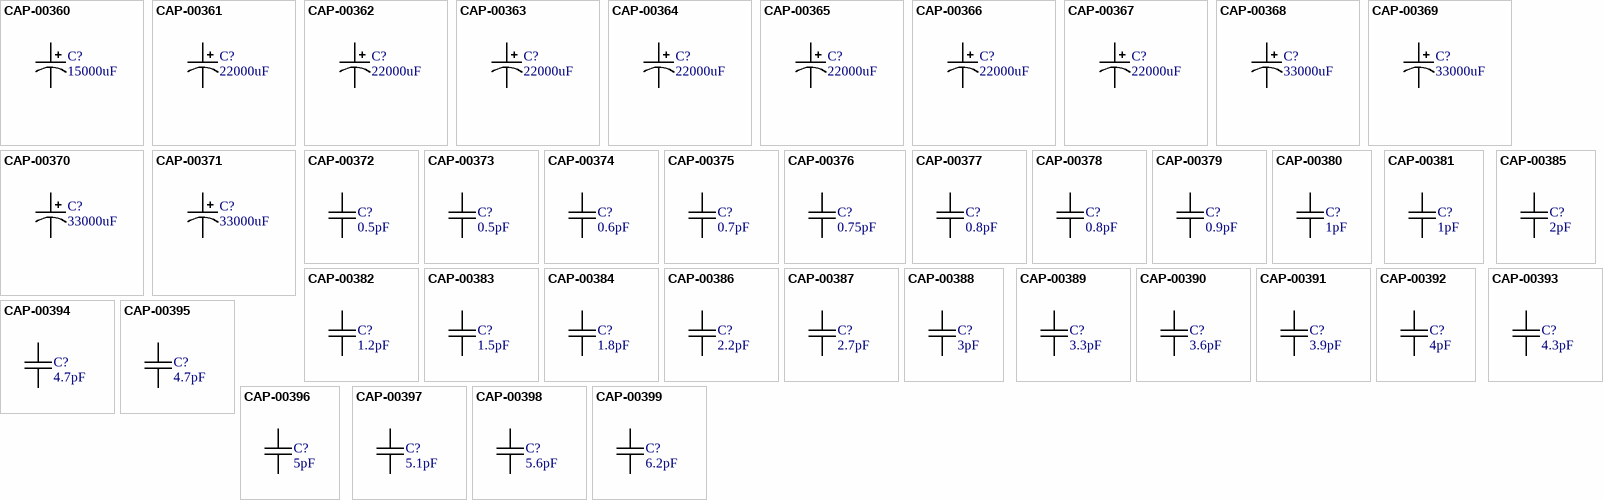
[diagram p9: symbols CAP-00360 to CAP-00399]

## CAP-00360
designator C?, comment 15000uF
CAP, 15000uF, 20%, 6.3V, Al, Radial/Can; Part Number: CAP-00360; Manufacturer: Nichicon; Manufacturer PN: UVR0J153MHD; Capacitance: 15000uF; Tolerance: 20%; Voltage Rating: 6.3V; Type: Al
footprint can_7.5_0
pins: 1, 2

## CAP-00361
designator C?, comment 22000uF
CAP, 22000uF, 20%, 25V, Al, Radial/Can; Part Number: CAP-00361; Manufacturer: Nichicon; Manufacturer PN: UVR1E223MRD; Capacitance: 22000uF; Tolerance: 20%; Voltage Rating: 25V; Type: Al
footprint can_12.5_0
pins: 1, 2

## CAP-00362
designator C?, comment 22000uF
CAP, 22000uF, 20%, 16V, Al, Radial/Can; Part Number: CAP-00362; Manufacturer: Nichicon; Manufacturer PN: UVR1C223MRD; Capacitance: 22000uF; Tolerance: 20%; Voltage Rating: 16V; Type: Al
footprint can_10_1
pins: 1, 2

## CAP-00363
designator C?, comment 22000uF
CAP, 22000uF, 20%, 16V, Al, Radial/Can; Part Number: CAP-00363; Manufacturer: Nichicon; Manufacturer PN: UVR1C223MRD6; Capacitance: 22000uF; Tolerance: 20%; Voltage Rating: 16V; Type: Al
footprint can_12.5_0
pins: 1, 2

## CAP-00364
designator C?, comment 22000uF
CAP, 22000uF, 20%, 6.3V, Al, Radial/Can; Part Number: CAP-00364; Manufacturer: Nichicon; Manufacturer PN: UVR0J223MHD; Capacitance: 22000uF; Tolerance: 20%; Voltage Rating: 6.3V; Type: Al
footprint can_7.5_1
pins: 1, 2

## CAP-00365
designator C?, comment 22000uF
CAP, 22000uF, 20%, 10V, Al, Radial/Can; Part Number: CAP-00365; Manufacturer: Nichicon; Manufacturer PN: UVR1A223MRD; Capacitance: 22000uF; Tolerance: 20%; Voltage Rating: 10V; Type: Al
footprint can_10_0
pins: 1, 2

## CAP-00366
designator C?, comment 22000uF
CAP, 22000uF, 20%, 10V, Al, Radial/Can; Part Number: CAP-00366; Manufacturer: Nichicon; Manufacturer PN: UVR1A223MRD6; Capacitance: 22000uF; Tolerance: 20%; Voltage Rating: 10V; Type: Al
footprint can_12.5_0
pins: 1, 2

## CAP-00367
designator C?, comment 22000uF
CAP, 22000uF, 20%, 6.3V, Al, Radial/Can; Part Number: CAP-00367; Manufacturer: Nichicon; Manufacturer PN: UVR0J223MRD6; Capacitance: 22000uF; Tolerance: 20%; Voltage Rating: 6.3V; Type: Al
footprint can_10_1
pins: 1, 2

## CAP-00368
designator C?, comment 33000uF
CAP, 33000uF, 20%, 16V, Al, Radial/Can; Part Number: CAP-00368; Manufacturer: Nichicon; Manufacturer PN: UVR1C333MRD; Capacitance: 33000uF; Tolerance: 20%; Voltage Rating: 16V; Type: Al
footprint can_12.5_0
pins: 1, 2

## CAP-00369
designator C?, comment 33000uF
CAP, 33000uF, 20%, 10V, Al, Radial/Can; Part Number: CAP-00369; Manufacturer: Nichicon; Manufacturer PN: UVR1A333MRD6; Capacitance: 33000uF; Tolerance: 20%; Voltage Rating: 10V; Type: Al
footprint can_12.5_0
pins: 1, 2

## CAP-00370
designator C?, comment 33000uF
CAP, 33000uF, 20%, 10V, Al, Radial/Can; Part Number: CAP-00370; Manufacturer: Nichicon; Manufacturer PN: UVR1A333MRD; Capacitance: 33000uF; Tolerance: 20%; Voltage Rating: 10V; Type: Al
footprint can_10_1
pins: 1, 2

## CAP-00371
designator C?, comment 33000uF
CAP, 33000uF, 20%, 6.3V, Al, Radial/Can; Part Number: CAP-00371; Manufacturer: Nichicon; Manufacturer PN: UVR0J333MRD6; Capacitance: 33000uF; Tolerance: 20%; Voltage Rating: 6.3V; Type: Al
footprint can_12.5_0
pins: 1, 2

## CAP-00372
designator C?, comment 0.5pF
CAP, 0.5pF, ±0.1pF, 50V, C0G, 0603; Part Number: CAP-00372; Manufacturer: Murata; Manufacturer PN: GRM1885C1HR50BA01D; Capacitance: 0.5pF; Tolerance: ±0.1pF; Voltage Rating: 50V; Type: C0G
footprint chip_0603
pins: 1, 2

## CAP-00373
designator C?, comment 0.5pF
CAP, 0.5pF, ±0.1pF, 100V, C0G, 0603; Part Number: CAP-00373; Manufacturer: Murata; Manufacturer PN: GRM1885C2AR50BA01D; Capacitance: 0.5pF; Tolerance: ±0.1pF; Voltage Rating: 100V; Type: C0G
footprint chip_0603
pins: 1, 2

## CAP-00374
designator C?, comment 0.6pF
CAP, 0.6pF, ±0.1pF, 50V, C0G, 0603; Part Number: CAP-00374; Manufacturer: Murata; Manufacturer PN: GRM1885C1HR60BA01D; Capacitance: 0.6pF; Tolerance: ±0.1pF; Voltage Rating: 50V; Type: C0G
footprint chip_0603
pins: 1, 2

## CAP-00375
designator C?, comment 0.7pF
CAP, 0.7pF, ±0.1pF, 50V, C0G, 0603; Part Number: CAP-00375; Manufacturer: Murata; Manufacturer PN: GRM1885C1HR70BA01D; Capacitance: 0.7pF; Tolerance: ±0.1pF; Voltage Rating: 50V; Type: C0G
footprint chip_0603
pins: 1, 2

## CAP-00376
designator C?, comment 0.75pF
CAP, 0.75pF, ±0.1pF, 50V, C0G, 0603; Part Number: CAP-00376; Manufacturer: Murata; Manufacturer PN: GRM1885C1HR75BA01D; Capacitance: 0.75pF; Tolerance: ±0.1pF; Voltage Rating: 50V; Type: C0G
footprint chip_0603
pins: 1, 2

## CAP-00377
designator C?, comment 0.8pF
CAP, 0.8pF, ±0.1pF, 50V, C0G, 0603; Part Number: CAP-00377; Manufacturer: Murata; Manufacturer PN: GRM1885C1HR80BA01D; Capacitance: 0.8pF; Tolerance: ±0.1pF; Voltage Rating: 50V; Type: C0G
footprint chip_0603
pins: 1, 2

## CAP-00378
designator C?, comment 0.8pF
CAP, 0.8pF, ±0.1pF, 100V, C0G, 0603; Part Number: CAP-00378; Manufacturer: Murata; Manufacturer PN: GRM1885C2AR80BA01D; Capacitance: 0.8pF; Tolerance: ±0.1pF; Voltage Rating: 100V; Type: C0G
footprint chip_0603
pins: 1, 2

## CAP-00379
designator C?, comment 0.9pF
CAP, 0.9pF, ±0.1pF, 50V, C0G, 0603; Part Number: CAP-00379; Manufacturer: Murata; Manufacturer PN: GRM1885C1HR90BA01D; Capacitance: 0.9pF; Tolerance: ±0.1pF; Voltage Rating: 50V; Type: C0G
footprint chip_0603
pins: 1, 2

## CAP-00380
designator C?, comment 1pF
CAP, 1pF, ±0.1pF, 50V, C0G, 0603; Part Number: CAP-00380; Manufacturer: Murata; Manufacturer PN: GRM1885C1H1R0BA01D; Capacitance: 1pF; Tolerance: ±0.1pF; Voltage Rating: 50V; Type: C0G
footprint chip_0603
pins: 1, 2

## CAP-00381
designator C?, comment 1pF
CAP, 1pF, ±0.1pF, 100V, C0G, 0603; Part Number: CAP-00381; Manufacturer: Murata; Manufacturer PN: GRM1885C2A1R0BA01D; Capacitance: 1pF; Tolerance: ±0.1pF; Voltage Rating: 100V; Type: C0G
footprint chip_0603
pins: 1, 2

## CAP-00382
designator C?, comment 1.2pF
CAP, 1.2pF, ±0.1pF, 50V, C0G, 0603; Part Number: CAP-00382; Manufacturer: Murata; Manufacturer PN: GRM1885C1H1R2BA01D; Capacitance: 1.2pF; Tolerance: ±0.1pF; Voltage Rating: 50V; Type: C0G
footprint chip_0603
pins: 1, 2